# Altium schematic symbol library Header-2_milmax.SchLib: 1 symbol
Pins are listed as number, name and electrical type; pins without a type are passive.

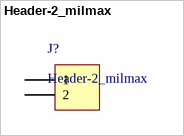
[diagram p0: symbol Header-2_milmax]

## Header-2_milmax
designator J?
pins: 1, 2